# Altium schematic symbol library DIOD-DZEN-A1K2-2.SchLib: 1 symbol
Pins are listed as number, name and electrical type; pins without a type are passive.

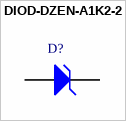
[diagram p0: symbol DIOD-DZEN-A1K2-2]

## DIOD-DZEN-A1K2-2
designator D?
pins: 1 A, 2 K